# Altium footprint library PCB.PcbLib: 22 footprints (part 1 of 2)
Each footprint in its own frame and in the unit in brackets; x right, y up, seen from the top. Pads: shape width x height; smd on the part's side, far side on the other; paste and mask are expansions set on the pad; w line width, h text height; cw(c..) or ccw(c..) is an arc to the next point about the centre after c.
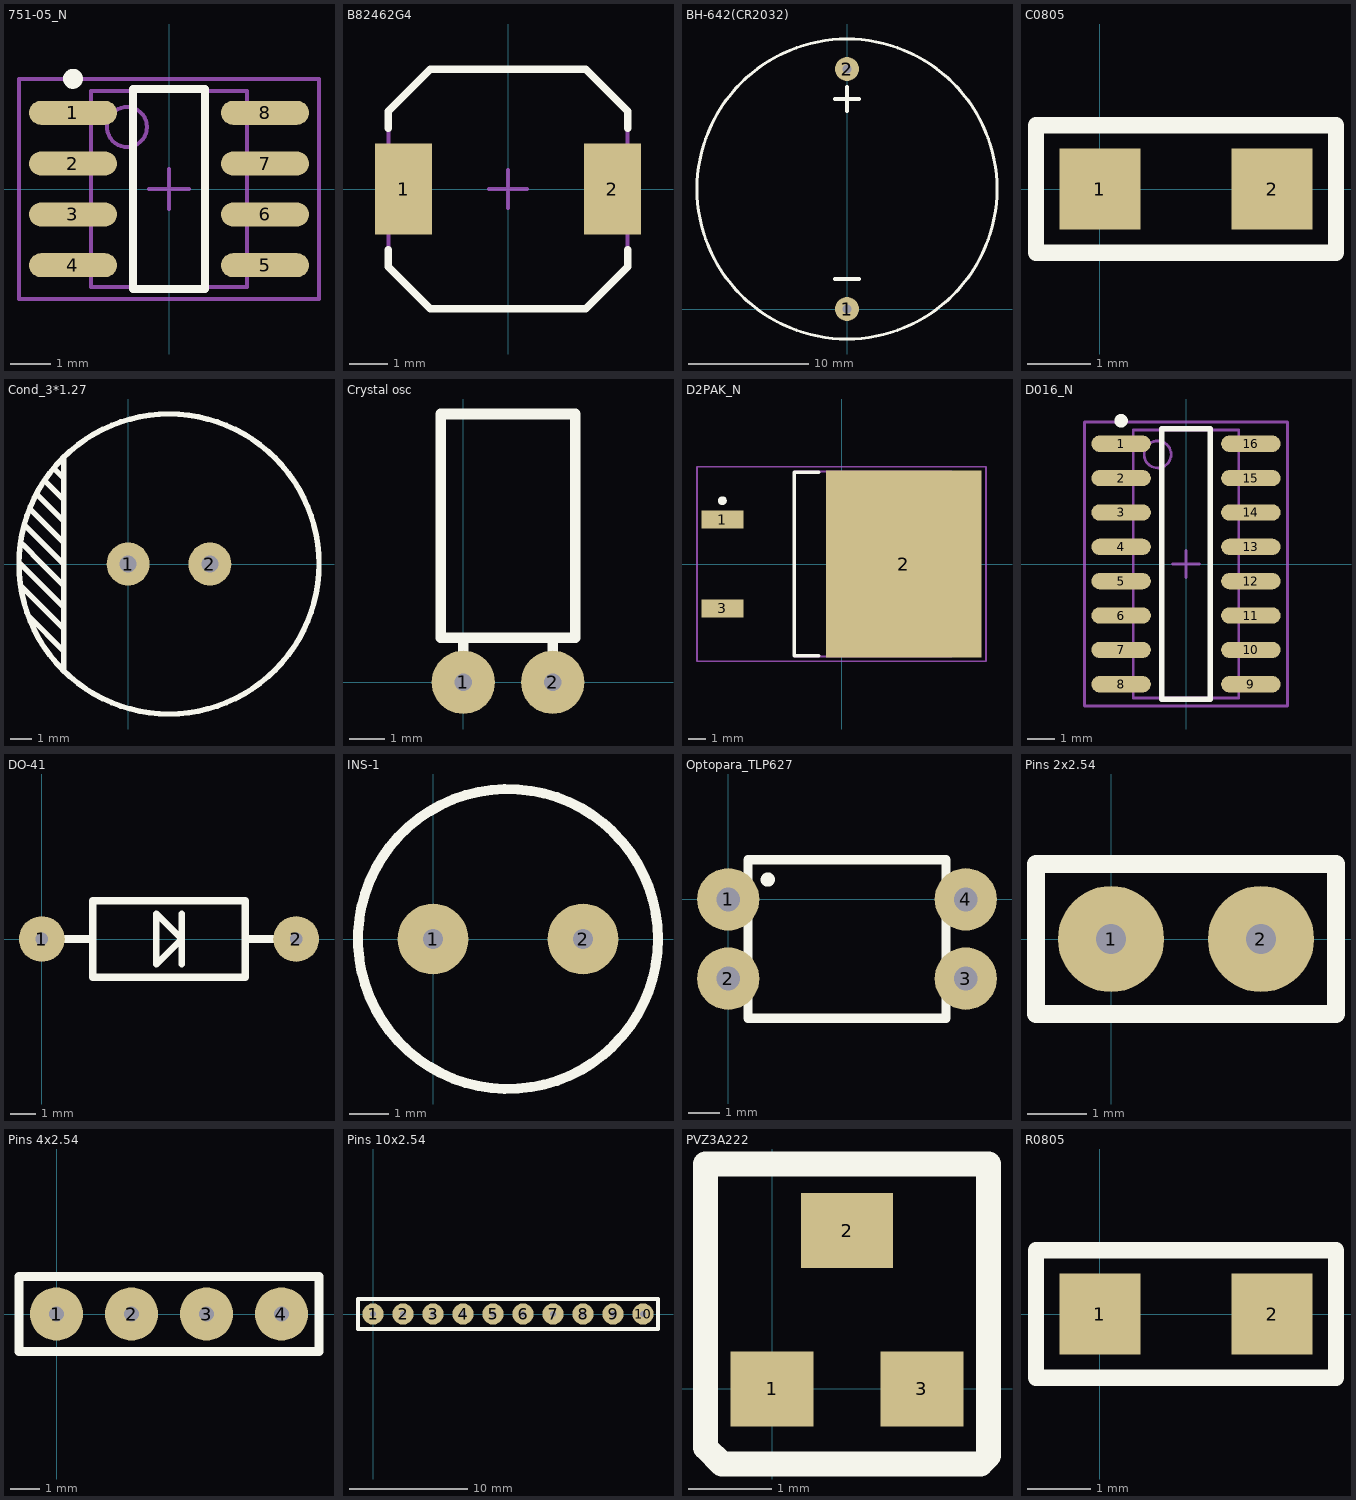
[diagram p0: the footprints below, top view; thin cyan lines are the x and y axes]

## 751-05_N [mm]
pads (8):
  oval 2.2x0.6 smd: 1(-2.4,1.905) 2(-2.4,0.635) 3(-2.4,-0.635) 4(-2.4,-1.905) 5(2.4,-1.905) 6(2.4,-0.635) 7(2.4,0.635) 8(2.4,1.905)
Top Overlay:
  circle w0.25: c-2.4,2.755 r0.125
  lines w0.2: -0.9,-2.5 -0.9,2.5 0.9,2.5 0.9,-2.5 -0.9,-2.5
Mechanical 13:
  circle w0.1: c-1.05,1.55 r0.5
  lines w0.1: -1.95,-2.45 -1.95,2.45 1.95,2.45 1.95,-2.45 -1.95,-2.45
Mechanical 15:
  lines w0.1: -0.5,0 0.5,0 ; 0,-0.5 0,0.5 ; -3.75,-2.75 -3.75,2.75 3.75,2.75 3.75,-2.75 -3.75,-2.75
3D body: height 1.75, standoff 0, extent -1.95,-2.45 1.95,2.45

## B82462G4 [mm]
pads (2):
  rect 1.5x2.4 smd: 1(-2.75,0) 2(2.75,0)
Top Overlay:
  lines w0.2: -3.15,-1.6 -3.15,-2.05 -2.05,-3.15 2.05,-3.15 3.15,-2.05 3.15,-1.6 ; -3.15,1.6 -3.15,2.05 -2.05,3.15 2.05,3.15 3.15,2.05 3.15,1.6
Mechanical 13:
  lines w0.1: -3.15,-2.05 -2.05,-3.15 2.05,-3.15 3.15,-2.05 3.15,2.05 2.05,3.15 -2.05,3.15 -3.15,2.05 -3.15,-2.05
Mechanical 15:
  lines w0.1: -0.5,0 0.5,0 ; 0,-0.5 0,0.5
3D body: height 3, standoff 0, extent -3.151,-3.151 3.151,3.151

## BH-642(CR2032) [mm]
pads (2):
  round 2 hole 0.762: 1(0,0) 2(0,20)
Top Overlay:
  circle w0.254: c0,10 r12.5
  lines w0.3: -1,2.5 1,2.5 ; -1,17.5 1,17.5 ; 0,16.5 0,18.5
3D body "BH-6_CellHolder.step": height 8.2, standoff -2.45, extent -11.3,-2.672 11.3,20.828

## C0805 [mm]
pads (2):
  rect 1.27x1.27 smd: 1(0,0) 2(2.7,0)
Top Overlay:
  lines w0.254: -1,-1 -1,1 3.7,1 3.7,-1 -1,-1
3D body "cap0805.stp": height 0.51, standoff 0.01, extent 0.322,-0.66 2.422,0.64

## Cond_3*1.27 [mm]
pads (2):
  round 2 hole 0.8: 1(0,0) 2(3.81,0)
Top Overlay:
  circle w0.254: c1.905,0 r6.985
  lines w0.25: -5,-1 -4,-2 -3,-3 ; -5,0 -4,-1 -3,-2 ; -4.9,0.9 -4,0 -3,-1 ; -4.8,1.8 -4,1 ; -4.625,-2.425 -3,-4.05 ; -4.5,2.5 -4,2 ; -4.2,3.2 -4,3 ; -3.8,3.8 -3,3 ; -3.4,4.4 -3,4 ; -3,-5 -3,5 ; -3,0 -4,1 ; -3,1 -4,2 ; -4,1 -4,1 ; -4,2 -4,2 ; -4,3 -3,2 ; -4,3 -4,3 ; -3,-3 -3,-3 ; -3,2 -3,2 ; -3,4 -3,4

## Crystal osc [mm]
pads (2):
  round 1.8 hole 0.5: 1(0,0) 2(2.54,0)
Top Overlay:
  lines w0.3: 0,0 0,1.27 ; 2.54,0 2.54,1.27 ; -0.635,1.27 3.175,1.27 3.175,7.62 -0.635,7.62 -0.635,1.27
3D body "DT-38T.STEP": height 3, standoff -2.5, extent -0.206,-0.191 2.794,10.859

## D2PAK_N [mm]
pads (3):
  rect 2.4x1.05 smd: 1(-6.8,2.54) 3(-6.8,-2.54)
  rect 8.9x10.65 smd: 2(3.55,0)
Top Overlay:
  circle w0.25: c-6.8,3.615 r0.125
  lines w0.2: -1.3,-5.25 -2.7,-5.25 -2.7,5.25 -1.3,5.25
Mechanical 13:
  lines w0.1: -2.7,-5.275 6.3,-5.275 6.3,5.275 -2.7,5.275 -2.7,-5.275
Mechanical 15:
  lines w0.1: -0.5,0 0.5,0 ; 0,-0.5 0,0.5 ; -8.25,-5.55 8.25,-5.55 8.25,5.55 -8.25,5.55 -8.25,-5.55
3D body: height 4.69, standoff 0, extent -2.7,-5.275 6.3,5.275

## D016_N [mm]
pads (16):
  oval 2.2x0.6 smd: 1(-2.4,4.445) 2(-2.4,3.175) 3(-2.4,1.905) 4(-2.4,0.635) 5(-2.4,-0.635) 6(-2.4,-1.905) 7(-2.4,-3.175) 8(-2.4,-4.445) 9(2.4,-4.445) 10(2.4,-3.175) 11(2.4,-1.905) 12(2.4,-0.635) 13(2.4,0.635) 14(2.4,1.905) 15(2.4,3.175) 16(2.4,4.445)
Top Overlay:
  circle w0.25: c-2.4,5.295 r0.125
  lines w0.2: -0.9,-5 0.9,-5 0.9,5 -0.9,5 -0.9,-5
Mechanical 13:
  circle w0.1: c-1.05,4.05 r0.5
  lines w0.1: -1.95,-4.95 1.95,-4.95 1.95,4.95 -1.95,4.95 -1.95,-4.95
Mechanical 15:
  lines w0.1: -0.5,0 0.5,0 ; 0,-0.5 0,0.5 ; -3.75,-5.25 3.75,-5.25 3.75,5.25 -3.75,5.25 -3.75,-5.25
3D body: height 1.75, standoff 0, extent -1.95,-4.95 1.95,4.95

## DO-41 [mm]
pads (2):
  round 1.8 hole 0.5: 1(0,0) 2(10,0)
Top Overlay:
  lines w0.254: 5.5,-1 5.5,1 ; 4.5,-1 4.5,1 5.5,0 4.5,-1
  lines w0.3: 0,0 2,0 ; 10,0 8,0 ; 8,0 8,1.5 2,1.5 2,-1.5 8,-1.5 8,0
3D body "DO-41 10mm.step": height 3.36, standoff -2, extent -0.43,-1.225 10.43,1.5

## INS-1 [mm]
pads (2):
  round 1.8 hole 0.5: 1(0,0) 2(3.81,0)
Top Overlay:
  circle w0.254: c1.905,0 r3.81

## Optopara_TLP627 [mm]
pads (4):
  round 2 hole 0.762: 1(0,0) 2(0,-2.54) 3(7.62,-2.54) 4(7.62,0)
Top Overlay:
  circle w0.254: c1.27,0.635 r0.1
  lines w0.3: 0.635,-3.81 0.635,1.27 6.985,1.27 6.985,-3.81 0.635,-3.81
3D body "TLP627.stp": height 4.46, standoff -2.49, extent -0.59,-3.56 8.21,1.02

## Pins 2x2.54 [mm]
pads (2):
  round 1.8 hole 0.5: 1(0,0) 2(2.54,0)
Top Overlay:
  lines w0.3: -1.27,-1.27 3.81,-1.27 3.81,1.27 -1.27,1.27 -1.27,-1.27
3D body "PLS-2.STEP": height 8.81, standoff -2.99, extent -1.27,-1.27 3.81,1.27

## Pins 4x2.54 [mm]
pads (4):
  round 1.8 hole 0.5: 1(0,0) 2(2.54,0) 3(5.08,0) 4(7.62,0)
Top Overlay:
  lines w0.3: -1.27,-1.27 -1.27,1.27 8.89,1.27 8.89,-1.27 -1.27,-1.27
3D body "PLS-4.STEP": height 8.81, standoff -2.99, extent -1.27,-1.27 8.89,1.27

## Pins 10x2.54 [mm]
pads (10):
  round 1.8 hole 0.5: 1(0,0) 2(2.54,0) 3(5.08,0) 4(7.62,0) 5(10.16,0) 6(12.7,0) 7(15.24,0) 8(17.78,0) 9(20.32,0) 10(22.86,0)
Top Overlay:
  lines w0.3: -1.27,-1.27 24.13,-1.27 24.13,1.27 -1.27,1.27 -1.27,-1.27
3D body "PLS-10.STEP": height 8.81, standoff -2.99, extent -1.27,-1.27 24.13,1.27

## PVZ3A222 [mm]
pads (3):
  rect 1x0.9 all layers, no hole: 1(0,0) 3(1.8,0)
  rect 1.1x0.9 all layers, no hole: 2(0.9,1.9)
Top Overlay:
  lines w0.3: -0.8,-0.7 -0.8,2.7 2.6,2.7 2.6,-0.8 2.5,-0.9 -0.6,-0.9 -0.8,-0.7

## R0805 [mm]
pads (2):
  rect 1.27x1.27 smd: 1(0,0) 2(2.7,0)
Top Overlay:
  lines w0.254: -1,-1 -1,1 3.7,1 3.7,-1 -1,-1
3D body "resistor0805.stp": height 0.51, standoff 0.01, extent 0.313,-0.65 2.413,0.65